# EAGLE library part BTM625 (library BTM625)
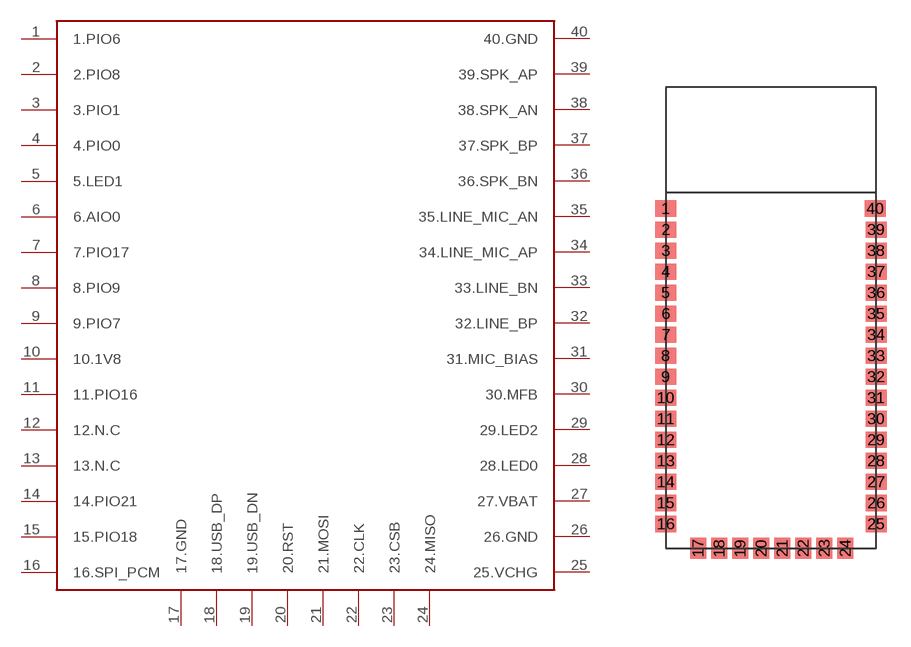
[diagram p0: symbol with the pads of BTM625; footprint BTM625]

Designator prefix -

## BTM625  [BTM625]
1  1.PIO6
2  2.PIO8
3  3.PIO1
4  4.PIO0
5  5.LED1
6  6.AIO0
7  7.PIO17
8  8.PIO9
9  9.PIO7
10  10.1V8
11  11.PIO16
12  12.N.C
13  13.N.C
14  14.PIO21
15  15.PIO18
16  16.SPI_PCM
17  17.GND
18  18.USB_DP
19  19.USB_DN
20  20.RST
21  21.MOSI
22  22.CLK
23  23.CSB
24  24.MISO
25  25.VCHG
26  26.GND
27  27.VBAT
28  28.LED0
29  29.LED2
30  30.MFB
31  31.MIC_BIAS
32  32.LINE_BP
33  33.LINE_BN
34  34.LINE_MIC_AP
35  35.LINE_MIC_AN
36  36.SPK_BN
37  37.SPK_BP
38  38.SPK_AN
39  39.SPK_AP
40  40.GND

## Footprint BTM625 (pad centres in mm)
smd 1.3 x 1: 1 0,21; 2 0,19.7; 3 0,18.4; 4 0,17.1; 5 0,15.8; 6 0,14.5; 7 0,13.2; 8 0,11.9; 9 0,10.6; 10 0,9.3; 11 0,8; 12 0,6.7; 13 0,5.4; 14 0,4.1; 15 0,2.8; 16 0,1.5; 25 13,1.5; 26 13,2.8; 27 13,4.1; 28 13,5.4; 29 13,6.7; 30 13,8; 31 13,9.3; 32 13,10.6; 33 13,11.9; 34 13,13.2; 35 13,14.5; 36 13,15.8; 37 13,17.1; 38 13,18.4; 39 13,19.7; 40 12.95,21
smd 1 x 1.3: 17 2,0; 18 3.3,0; 19 4.6,0; 20 5.9,0; 21 7.2,0; 22 8.5,0; 23 9.8,0; 24 11.1,0